# EAGLE library part SR1712F-0108 (library logick)
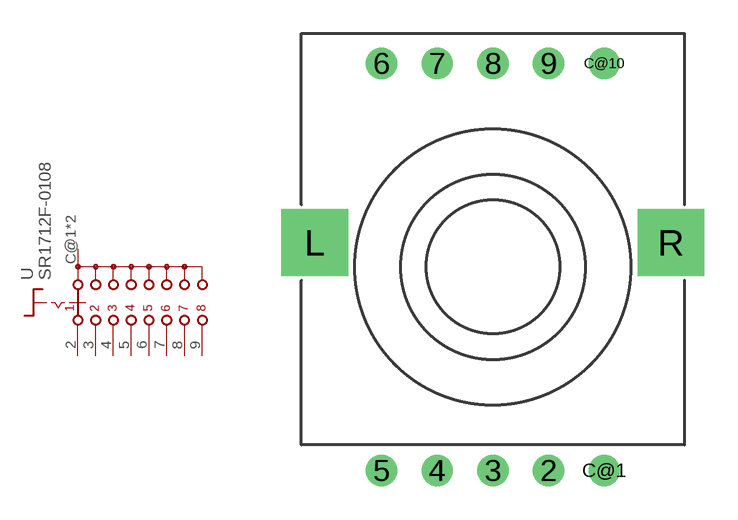
[diagram p7: symbol with the pads of SR1712F; footprint SR1712F]

Designator prefix -

## SR1712F-0108  [SR1712F]
2  1  pas
3  2  pas
4  3  pas
5  4  pas
6  5  pas
7  6  pas
8  7  pas
9  8  pas
C@1  C  pas
C@10  C  pas

## Footprint SR1712F (pad centres in mm)
drill 0.9: 2 2.5,-9.15; 3 0,-9.15; 4 -2.5,-9.15; 5 -5,-9.15; 6 -5,9.15; 7 -2.5,9.15; 8 0,9.15; 9 2.5,9.15; C@1 5,-9.15; C@10 5,9.15
drill 2 square: L -8,1.1; R 8,1.1